# Altium schematic symbol library MOSFET,N Ch,40V,202A.Schlib: 1 symbol
Pins are listed as number, name and electrical type; pins without a type are passive.

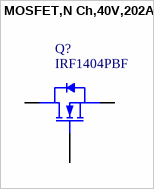
[diagram p0: symbol MOSFET,N Ch,40V,202A]

## MOSFET,N Ch,40V,202A
designator Q?, comment IRF1404PBF
N-Channel 40 V 202A (Tc) 333W (Tc) Through Hole TO-220AB
pins: 1 G, 2 D, 3 S